# EAGLE library part LTC3531 (library custom)
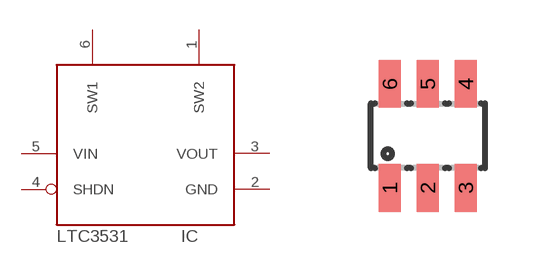
[diagram p0: symbol with the pads of SOT23-6L; footprint SOT23-6L]

Designator prefix IC

## LTC3531  [SOT23-6L]
1  SW2  pas
2  GND  pwr
3  VOUT  pwr
4  SHDN  in
5  VIN  pwr
6  SW1  pas

## Footprint SOT23-6L (pad centres in mm)
Small Outline Transistor
smd 0.55 x 1.2: 1 -0.95,-1.3; 2 0,-1.3; 3 0.95,-1.3; 4 0.95,1.3; 5 0,1.3; 6 -0.95,1.3